# Altium footprint library long_creepage_photocoupler.PcbLib: 1 footprints
Each footprint in its own frame and in the unit in brackets; x right, y up, seen from the top. Pads: shape width x height; smd on the part's side, far side on the other; paste and mask are expansions set on the pad; w line width, h text height; cw(c..) or ccw(c..) is an arc to the next point about the centre after c.
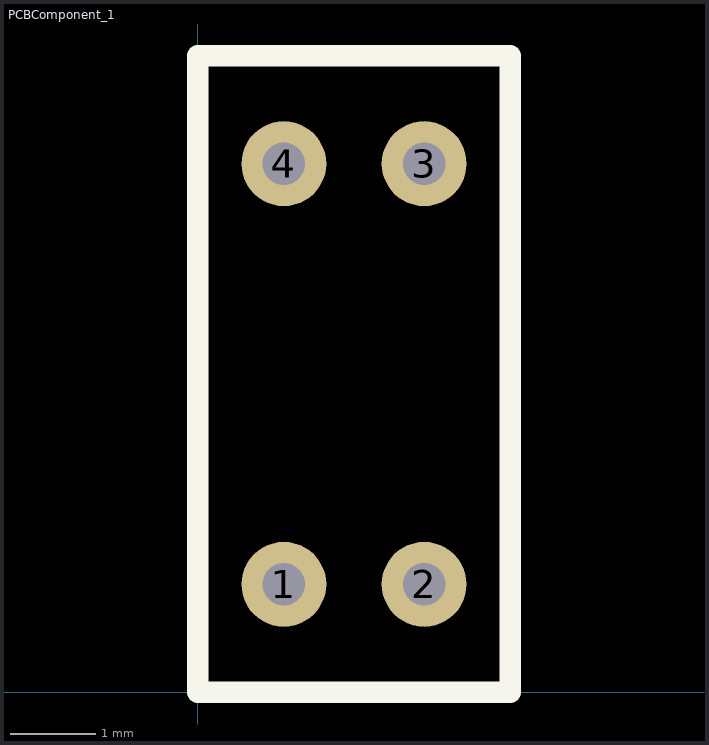
[diagram p0: the footprint, top view; thin cyan lines are the x and y axes]

## PCBComponent_1 [mm]
pads (4):
  round 1 hole 0.5: 1(1.016,1.27) 2(2.667,1.27) 3(2.667,6.223) 4(1.016,6.223)
Top Overlay:
  lines w0.254: 0,0 0,7.493 3.683,7.493 3.683,1.016 3.683,0 0,0